# Altium schematic symbol library RES.SchLib: 1 symbol
Pins are listed as number, name and electrical type; pins without a type are passive.

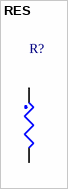
[diagram p0: symbol RES]

## RES
designator R?
RES MF ZERO OHM 1/10W -- 0603
pins: 1, 2